# Altium schematic symbol library camm-brd.SchLib: 1 symbol
Pins are listed as number, name and electrical type; pins without a type are passive.

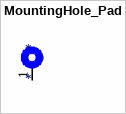
[diagram p0: symbol MountingHole_Pad]

## MountingHole_Pad
designator *
pins: 1